# EAGLE library part 156815-1 (library Cape)
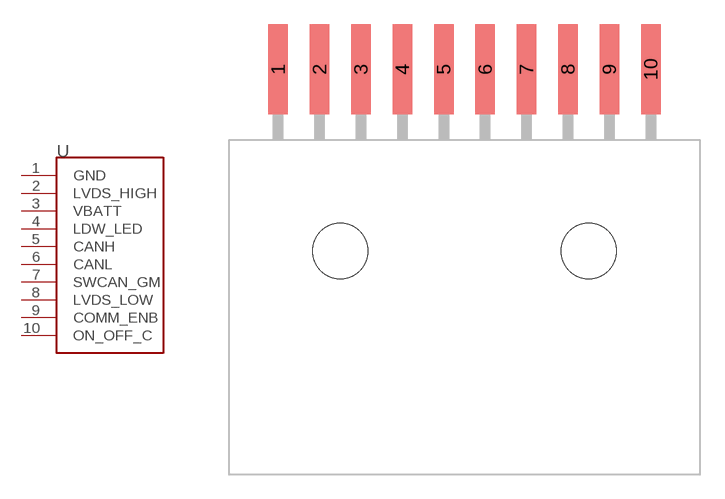
[diagram p3: symbol with the pads of 156815-1; footprint 156815-1]

Designator prefix -

## 156815-1  [156815-1]
1  GND
2  LVDS_HIGH
3  VBATT
4  LDW_LED
5  CANH
6  CANL
7  SWCAN_GM
8  LVDS_LOW
9  COMM_ENB
10  ON_OFF_C

## Footprint 156815-1 (pad centres in mm)
smd 1.2 x 5.5: 1 -11.43,2.75; 2 -8.89,2.75; 3 -6.35,2.75; 4 -3.81,2.75; 5 -1.27,2.75; 6 1.27,2.75; 7 3.81,2.75; 8 6.35,2.75; 9 8.89,2.75; 10 11.43,2.75
hole 3.4 at -7.62,-8.4
hole 3.4 at 7.62,-8.4